# Altium schematic symbol library SCH_Inductors.SchLib: 6 symbols
Pins are listed as number, name and electrical type; pins without a type are passive.

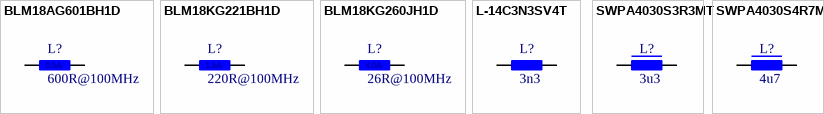
[diagram p0: symbols BLM18AG601BH1D to SWPA4030S4R7MT]

## BLM18AG601BH1D
designator L?, comment 600R@100MHz
FERRITE BEAD 600 OHM 0603; Manufacturer: Murata; Manufacturer Part Number: BLM18AG601BH1D; Number of Lines: 1; Max Current Rating: 500mA; DC Resistance (DCR): 380mR; Supplier 1: Digi-Key; RoHS: Yes; Category: Ferrite Beads and Chips; Stock 1: 19274; Pricing 1: 1=0,11000, 10=0,09100, 25=0,07080, 50=0,05860, 100=0,05050, 250=0,04040, 500=0,03636, 1000=0,03030 (USD); Case/Package: 0603; Case Code (Metric): 1608; Case Code (Imperial): 0603; Min Operating Temperature: -55°C; Max Operating Temperature: 150°C; Ratings: AEC-Q200; RoHS Compliant: Yes; ComponentLink1URL: https://www.mouser.com/ds/2/281/LM18AG601BH1%23-962372.pdf?src-supplier=Mouser; ComponentLink1Description: https://www.mouser.com/ds/2/281/LM18AG601BH1%23-962372.pdf?src-supplier=Mouser; ComponentLink2URL: http://www.murata.com/en-us/products/productdata/8798137286686/QNFA9129.pdf?src-supplier=Digi-Key; ComponentLink2Description: http://www.murata.com/en-us/products/productdata/8798137286686/QNFA9129.pdf?src-supplier=Digi-Key; ComponentLink3URL: https://www.murata.com/en-us/products/productdata/8796733866014/S0594E.pdf?src-supplier=Digi-Key; ComponentLink3Description: https://www.murata.com/en-us/products/productdata/8796733866014/S0594E.pdf?src-supplier=Digi-Key; Supplier Part Number 1: 490-14039-1-ND
footprint L0603
pins: 1, 2
text: 0.5A

## BLM18KG221BH1D
designator L?, comment 220R@100MHz
FERRITE BEAD 220 OHM 0603; Manufacturer: Murata; Manufacturer Part Number: BLM18KG221BH1D; Number of Lines: 1; Max Current Rating: 1.5A; DC Resistance (DCR): 50mR; RoHS: Yes; Category: Ferrite Beads and Chips; Stock 1: 10545; Pricing 1: 1=0,11000, 10=0,08600, 25=0,07720, 50=0,05660, 100=0,04890, 250=0,03864, 500=0,03262, 1000=0,02747 (USD); Case/Package: 0603; Case Code (Metric): 1608; Case Code (Imperial): 0603; Min Operating Temperature: -55°C; Max Operating Temperature: 150°C; Ratings: AEC-Q200; RoHS Compliant: Yes; ComponentLink1URL: http://www.murata.com/en-us/products/productdata/8798137286686/QNFA9129.pdf?src-supplier=Digi-Key; ComponentLink1Description: http://www.murata.com/en-us/products/productdata/8798137286686/QNFA9129.pdf?src-supplier=Digi-Key; ComponentLink2URL: https://www.murata.com/en-us/products/productdata/8796733866014/S0594E.pdf?src-supplier=Digi-Key; ComponentLink2Description: https://www.murata.com/en-us/products/productdata/8796733866014/S0594E.pdf?src-supplier=Digi-Key; Supplier 1: LCSC; Supplier 2: Digi-Key; Supplier Part Number 1: C560053; Supplier Part Number 2: 490-14029-1-ND
footprint L0603
pins: 1, 2

## BLM18KG260JH1D
designator L?, comment 26R@100MHz
FERRITE BEAD 26 OHM 0603; Manufacturer: Murata; Manufacturer Part Number: BLM18KG260JH1D; Number of Lines: 1; Max Current Rating: 4A; DC Resistance (DCR): 7mR; Supplier 1: Digi-Key; RoHS: Yes; Category: Ferrite Beads and Chips; Stock 1: 23296; Pricing 1: 1=0,11000, 10=0,08600, 25=0,07720, 50=0,05660, 100=0,04890, 250=0,03864, 500=0,03262, 1000=0,02747 (USD); Case/Package: 0603; Case Code (Metric): 1608; Case Code (Imperial): 0603; Min Operating Temperature: -55°C; Max Operating Temperature: 150°C; Ratings: AEC-Q200; RoHS Compliant: Yes; ComponentLink1URL: http://www.murata.com/en-us/products/productdata/8798137286686/QNFA9129.pdf?src-supplier=Digi-Key; ComponentLink1Description: http://www.murata.com/en-us/products/productdata/8798137286686/QNFA9129.pdf?src-supplier=Digi-Key; ComponentLink2URL: https://www.murata.com/en-us/products/productdata/8796733866014/S0594E.pdf?src-supplier=Digi-Key; ComponentLink2Description: https://www.murata.com/en-us/products/productdata/8796733866014/S0594E.pdf?src-supplier=Digi-Key; Supplier Part Number 1: 490-14026-1-ND
footprint L0603
pins: 1, 2
text: 4.0A

## L-14C3N3SV4T
designator L?, comment 3n3
FIXED IND 3.3NH 300MA 0603; Manufacturer: Johanson; Manufacturer Part Number: L-14C3N3SV4T; Core Material: Ceramic; Shielding: Unshielded; Q Factor: 12; DC Resistance (DCR): 250mR; Self Resonant Frequency: 6.5GHz; Test Frequency: 100MHz; Supplier 1: Digi-Key; RoHS: Yes; Category: Fixed Inductors; Stock 1: 80606; Pricing 1: 1=0,10000, 10=0,05700, 25=0,05040, 50=0,04300, 100=0,03790, 250=0,03472, 500=0,03156, 1000=0,02651 (USD); Mount: Surface Mount; Case/Package: 0603; Number of Pins: 2; Case Code (Metric): 1608; Case Code (Imperial): 0603; Weight: 0.000141oz; Min Operating Temperature: -40°C; Max Operating Temperature: 100°C; Packaging: Tape and Reel; Package Quantity: 4000; Current Rating: 300mA; Inductance: 3.3nH; Max DC Current: 300mA; Termination: SMD/SMT; Resistor Type: Ceramic; DC Current: 300mA; Series: -; Length: 1.6mm; Width: 0.8mm; Height: 0.8mm; Height - Seated (Max): 0.037inch; Depth: 0.95mm; Radiation Hardening: No; Reach SVHC Compliant: Yes; Military Standard: Not; RoHS Compliant: Yes; ComponentLink1URL: http://components.arrow.com/part/dataview/44115441S99353N2069?src-supplier=Arrow+Electronics; ComponentLink1Description: http://components.arrow.com/part/dataview/44115441S99353N2069?src-supplier=Arrow+Electronics; ComponentLink2URL: http://www.mouser.com/ds/2/611/jti-cat-rf-ind-844822.pdf?src-supplier=Mouser; ComponentLink2Description: http://www.mouser.com/ds/2/611/jti-cat-rf-ind-844822.pdf?src-supplier=Mouser; ComponentLink3URL: http://www.farnell.com/datasheets/2372621.pdf?src-supplier=Farnell; ComponentLink3Description: http://www.farnell.com/datasheets/2372621.pdf?src-supplier=Farnell; ComponentLink4URL: http://www.farnell.com/datasheets/1327494.pdf?src-supplier=Farnell; ComponentLink4Description: http://www.farnell.com/datasheets/1327494.pdf?src-supplier=Farnell; ComponentLink5URL: https://www.johansontechnology.com/downloads/jti-cat-rf-ind.pdf?src-supplier=Digi-Key; ComponentLink5Description: https://www.johansontechnology.com/downloads/jti-cat-rf-ind.pdf?src-supplier=Digi-Key; ComponentLink6URL: http://www.johansontechnology.com/images/stories/rf-inductors/cci/JTI_CAT_2012_Inductors_Chip.pdf?src-supplier=Avnet; ComponentLink6Description: http://www.johansontechnology.com/images/stories/rf-inductors/cci/JTI_CAT_2012_Inductors_Chip.pdf?src-supplier=Avnet; ComponentLink7URL: http://www.farnell.com/datasheets/1327494.pdf?src-supplier=Element14; ComponentLink7Description: http://www.farnell.com/datasheets/1327494.pdf?src-supplier=Element14; Supplier Part Number 1: 712-1428-1-ND
footprint L0603
pins: 1, 2

## SWPA4030S3R3MT
designator L?, comment 3u3
FIXED IND 3.3UH 20% 2.4A; Manufacturer: Sunlord; Manufacturer Part Number: SWPA4030S3R3MT; DC Resistance (DCR): 52mOhm; Supplier 1: LCSC; RoHS: Yes; Category: Fixed Inductors; Stock 1: 33380; Pricing 1: 10=0,04400, 100=0,03540, 300=0,03110, 2000=0,02700, 4000=0,02450, 10000=0,02330 (USD); RoHS Compliant: Yes; Supplier 2: Digi-Key; Stock 2: 3423; Pricing 2: 1=0,44000, 10=0,38900, 25=0,36120, 50=0,30560, 100=0,27780, 250=0,26108, 500=0,23332, 1000=0,18887 (USD); Supplier Part Number 1: C15269; Supplier Part Number 2: 3442-SWPA4030S3R3MTCT-ND; Current Rating: 2.4A; Inductance: 3.3uH; ComponentLink1Description: Datasheet; ComponentLink1URL: https://datasheet.lcsc.com/lcsc/2110091630_Sunlord-SWPA4030S4R7MT_C57269.pdf; Case/Package: SMD-2
footprint SWPA4030S
pins: 1, 2

## SWPA4030S4R7MT
designator L?, comment 4u7
FIXED IND 4.7UH 20% 2A; Manufacturer: Sunlord; Manufacturer Part Number: SWPA4030S4R7MT; DC Resistance (DCR): 78mOhm; Supplier 1: LCSC; RoHS: Yes; Category: Fixed Inductors; Stock 1: 155260; Pricing 1: 10=0,05200, 100=0,04200, 300=0,03480, 1000=0,02680, 5000=0,02590, 10000=0,02540 (USD); RoHS Compliant: Yes; Supplier 2: Digi-Key; Stock 2: 2525; Pricing 2: 1=0,44000, 10=0,38900, 25=0,36120, 50=0,30560, 100=0,27780, 250=0,26108, 500=0,23332, 1000=0,18887 (USD); Supplier Part Number 1: C57269; Supplier Part Number 2: 3442-SWPA4030S4R7MTCT-ND; ComponentLink1Description: Datasheet; ComponentLink1URL: https://datasheet.lcsc.com/lcsc/2110091630_Sunlord-SWPA4030S4R7MT_C57269.pdf; Inductance: 4.7uH; Current Rating: 2A; Case/Package: SMD-2
footprint SWPA4030S
pins: 1, 2